# EAGLE library part TPS73633-DCQ (library NixieDisplay)
400mA 3.3v Linear Regulator
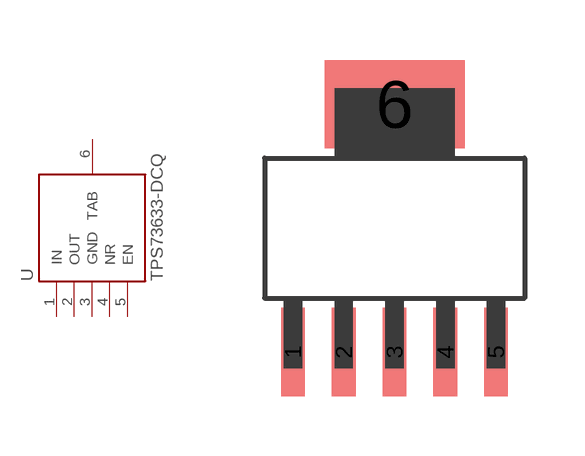
[diagram p10: symbol with the pads of SOT223-6; footprint SOT223-6]

Designator prefix U

## TPS73633-DCQ  [SOT223-6]
1  IN  pwr
2  OUT  pwr
3  GND  pwr
4  NR
5  EN  in
6  TAB  pwr

## Footprint SOT223-6 (pad centres in mm)
smd 0.6 x 2.2: 1 -2.54,-3.1; 2 -1.27,-3.1; 3 0,-3.1; 4 1.27,-3.1; 5 2.54,-3.1
smd 3.5 x 2.2: 6 0,3.1